# EAGLE library part CONNECTOR_PINHD-2X4 (library Local Compute Module)
PIN HEADER
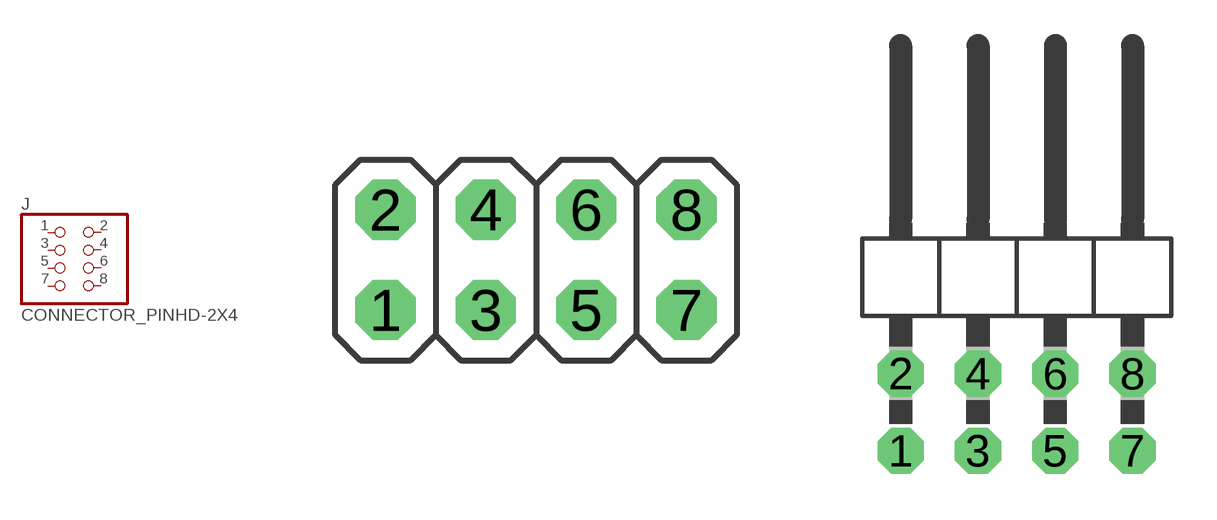
[diagram p0: symbol with the pads of CONNECTOR_2X04; footprints CONNECTOR_2X04, CONNECTOR_2X04/90]

Designator prefix J

## CONNECTOR_PINHD-2X4 (DIGIKEY: 2553-2112-2X04G00SB-ND; MANUFACTURER: Oupiin; MPN: 2112-2X04G00SB)  [CONNECTOR_2X04]
1  1  pas
2  2  pas
3  3  pas
4  4  pas
5  5  pas
6  6  pas
7  7  pas
8  8  pas

## CONNECTOR_PINHD-2X4/90 (CATEGORY: CONNECTOR; SUB-CATEGORY: PIN-HEADER)  [CONNECTOR_2X04/90]
Pads as for CONNECTOR_2X04

## Footprint CONNECTOR_2X04 (pad centres in mm)
PIN HEADER
drill 1.016 octagon: 1 -3.81,-1.27; 2 -3.81,1.27; 3 -1.27,-1.27; 4 -1.27,1.27; 5 1.27,-1.27; 6 1.27,1.27; 7 3.81,-1.27; 8 3.81,1.27

## Footprint CONNECTOR_2X04/90 (pad centres in mm)
PIN HEADER
drill 1.016 octagon: 1 -3.81,-6.35; 2 -3.81,-3.81; 3 -1.27,-6.35; 4 -1.27,-3.81; 5 1.27,-6.35; 6 1.27,-3.81; 7 3.81,-6.35; 8 3.81,-3.81